# EAGLE library part ATSAML21G18B-AUT (library RocketControlBoard)
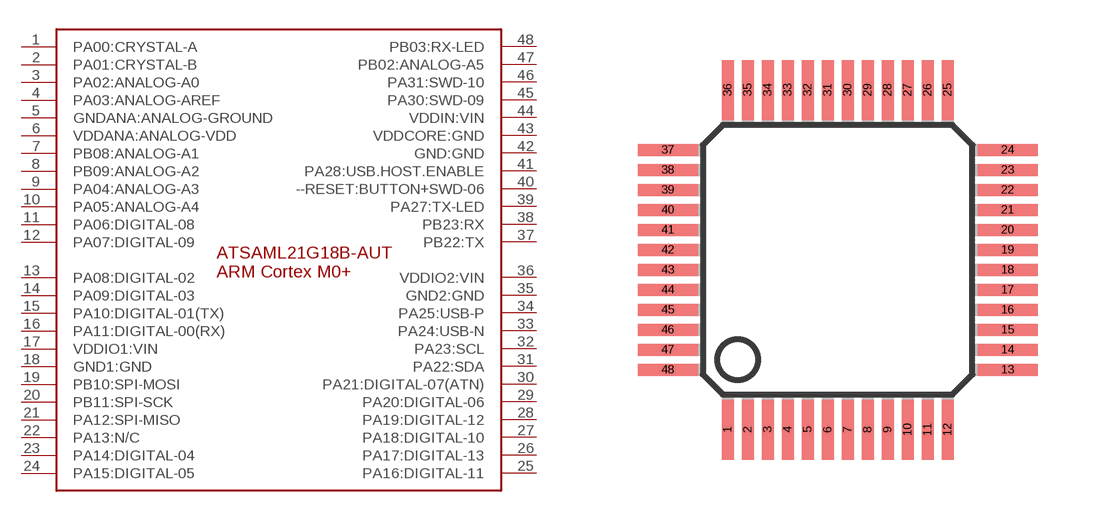
[diagram p0: symbol with the pads of TQFP48; footprint TQFP48]

Designator prefix -

## ATSAML21G18B-AUT  [TQFP48]
1  PA00:CRYSTAL-A
2  PA01:CRYSTAL-B
3  PA02:ANALOG-A0
4  PA03:ANALOG-AREF
5  GNDANA:ANALOG-GROUND
6  VDDANA:ANALOG-VDD
7  PB08:ANALOG-A1
8  PB09:ANALOG-A2
9  PA04:ANALOG-A3
10  PA05:ANALOG-A4
11  PA06:DIGITAL-08
12  PA07:DIGITAL-09
13  PA08:DIGITAL-02
14  PA09:DIGITAL-03
15  PA10:DIGITAL-01(TX)
16  PA11:DIGITAL-00(RX)
17  VDDIO1:VIN
18  GND1:GND
19  PB10:SPI-MOSI
20  PB11:SPI-SCK
21  PA12:SPI-MISO
22  PA13:N/C
23  PA14:DIGITAL-04
24  PA15:DIGITAL-05
25  PA16:DIGITAL-11
26  PA17:DIGITAL-13
27  PA18:DIGITAL-10
28  PA19:DIGITAL-12
29  PA20:DIGITAL-06
30  PA21:DIGITAL-07(ATN)
31  PA22:SDA
32  PA23:SCL
33  PA24:USB-N
34  PA25:USB-P
35  GND2:GND
36  VDDIO2:VIN
37  PB22:TX
38  PB23:RX
39  PA27:TX-LED
40  --RESET:BUTTON+SWD-06
41  PA28:USB.HOST.ENABLE
42  GND:GND
43  VDDCORE:GND
44  VDDIN:VIN
45  PA30:SWD-09
46  PA31:SWD-10
47  PB02:ANALOG-A5
48  PB03:RX-LED

## Footprint TQFP48 (pad centres in mm)
Thin Quad Flat Pack
smd 0.3 x 1.5: 1 -2.75,-4.25; 2 -2.25,-4.25; 3 -1.75,-4.25; 4 -1.25,-4.25; 5 -0.75,-4.25; 6 -0.25,-4.25; 7 0.25,-4.25; 8 0.75,-4.25; 9 1.25,-4.25; 10 1.75,-4.25; 11 2.25,-4.25; 12 2.75,-4.25; 25 2.75,4.25; 26 2.25,4.25; 27 1.75,4.25; 28 1.25,4.25; 29 0.75,4.25; 30 0.25,4.25; 31 -0.25,4.25; 32 -0.75,4.25; 33 -1.25,4.25; 34 -1.75,4.25; 35 -2.25,4.25; 36 -2.75,4.25
smd 1.5 x 0.3: 13 4.25,-2.75; 14 4.25,-2.25; 15 4.25,-1.75; 16 4.25,-1.25; 17 4.25,-0.75; 18 4.25,-0.25; 19 4.25,0.25; 20 4.25,0.75; 21 4.25,1.25; 22 4.25,1.75; 23 4.25,2.25; 24 4.25,2.75; 37 -4.25,2.75; 38 -4.25,2.25; 39 -4.25,1.75; 40 -4.25,1.25; 41 -4.25,0.75; 42 -4.25,0.25; 43 -4.25,-0.25; 44 -4.25,-0.75; 45 -4.25,-1.25; 46 -4.25,-1.75; 47 -4.25,-2.25; 48 -4.25,-2.75